# Altium footprint library WS2812B_NEW_FOOTPRINT.PcbLib: 1 footprints
Each footprint in its own frame and in the unit in brackets; x right, y up, seen from the top. Pads: shape width x height; smd on the part's side, far side on the other; paste and mask are expansions set on the pad; w line width, h text height; cw(c..) or ccw(c..) is an arc to the next point about the centre after c.
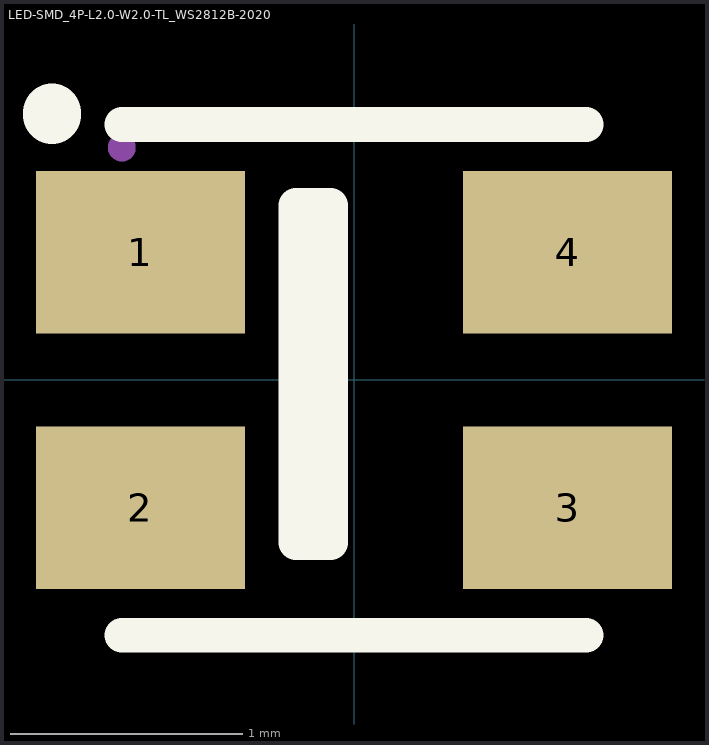
[diagram p0: the footprint, top view; thin cyan lines are the x and y axes]

## LED-SMD_4P-L2.0-W2.0-TL_WS2812B-2020 [mm]
pads (4):
  rect 0.9x0.7 smd: 1(-0.92,0.55) 2(-0.92,-0.55) 3(0.92,-0.55) 4(0.92,0.55)
F.SilkS:
  lines w0.15: -1,-1.1 1,-1.1 ; -1,1.1 1,1.1 ; -0.25,-0.7 -0.1,-0.7 -0.1,-0.65 -0.1,0.75 -0.25,0.75 -0.25,-0.7
  lines w0.25: -1.3,1.14 -1.3,1.15
F.Fab:
  circle w0.06: c-1,1 r0.03